# EAGLE library part 150282M167310 (library WL-SFTD)
WL-SFTD SMT Full-color Top LED Diffused Characteristics Industry standard size 3535 Matte and non-reflective surface High reliability Low energy consumtion Low current requirement MSL 5a Water-resistant IPx6 Applications Outdoor Full-Color Video Screen Decorative lighting Entertainment LED display screen Indicator Backlight <https://www.we-online.com/catalog/media/o135756v209%20Gruppe_WL-SFTD_1616_2022_2828_2828.jpg> Details see: www.we-online.com/en/components/products/WL-SFTD <www.we-online.com/catalog/WL-SFTD/?utm_source=eagle_model&utm_medium=description_link&utm_campaign=eisos_eagle> Updated by Ella Wu 2025-03-14 2025 (C) Würth Elektronik
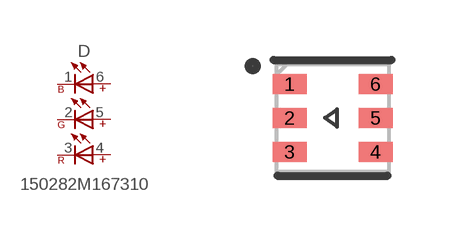
[diagram p0: symbol with the pads of 150282M167310; footprint 150282M167310]

Designator prefix D

## 150282M167310 (CHIP-TECHNOLOGY: AlInGaP + GaN; DATASHEET-URL: https://www.we-online.com/redexpert/spec/150282M167310?ae; DOMINANT-WAVELENGTH: 620nm@Red & 530nm@Green & 470nm@Blue; EMITTING-COLOR: Red & Green & Blue; FORWARD-VOLTAGE: 2V@Red & 3.2V@Green & 3.2V@Blue; HEIGHT: 3mm; LENGTH: 2.8mm; LUMINOUS-INTENSITY: 1200nm@Red & 3000nm@Green & 600nm@Blue; MOUNT: SMT; PART-NUMBER: 150282M167310; PEAK-WAVELENGTH: 635nm@Red & 515nm@Green & 465nm@Blue; SIZE: 2828; VALUE: 150282M167310; VIEWING-ANGLE: 70°; WIDTH: 2.8mm)  [150282M167310]
1  B-  pas
2  G-  pas
3  R-  pas
4  R+  pas
5  G+  pas
6  B+  pas

## Footprint 150282M167310 (pad centres in mm)
WL-SFTD SMT Full-color Top LED Diffused Size: 2828, SMT, 6pins 2.8X2.7X3mm(LXWXH)
smd 0.85 x 0.5: 1 -1.075,0.85; 2 -1.075,0; 3 -1.075,-0.85; 4 1.075,-0.85; 5 1.075,0; 6 1.075,0.85